# Altium footprint library LARIX_V5.PcbLib: 39 footprints (part 3 of 3)
Each footprint in its own frame and in the unit in brackets; x right, y up, seen from the top. Pads: shape width x height; smd on the part's side, far side on the other; paste and mask are expansions set on the pad; w line width, h text height; cw(c..) or ccw(c..) is an arc to the next point about the centre after c.
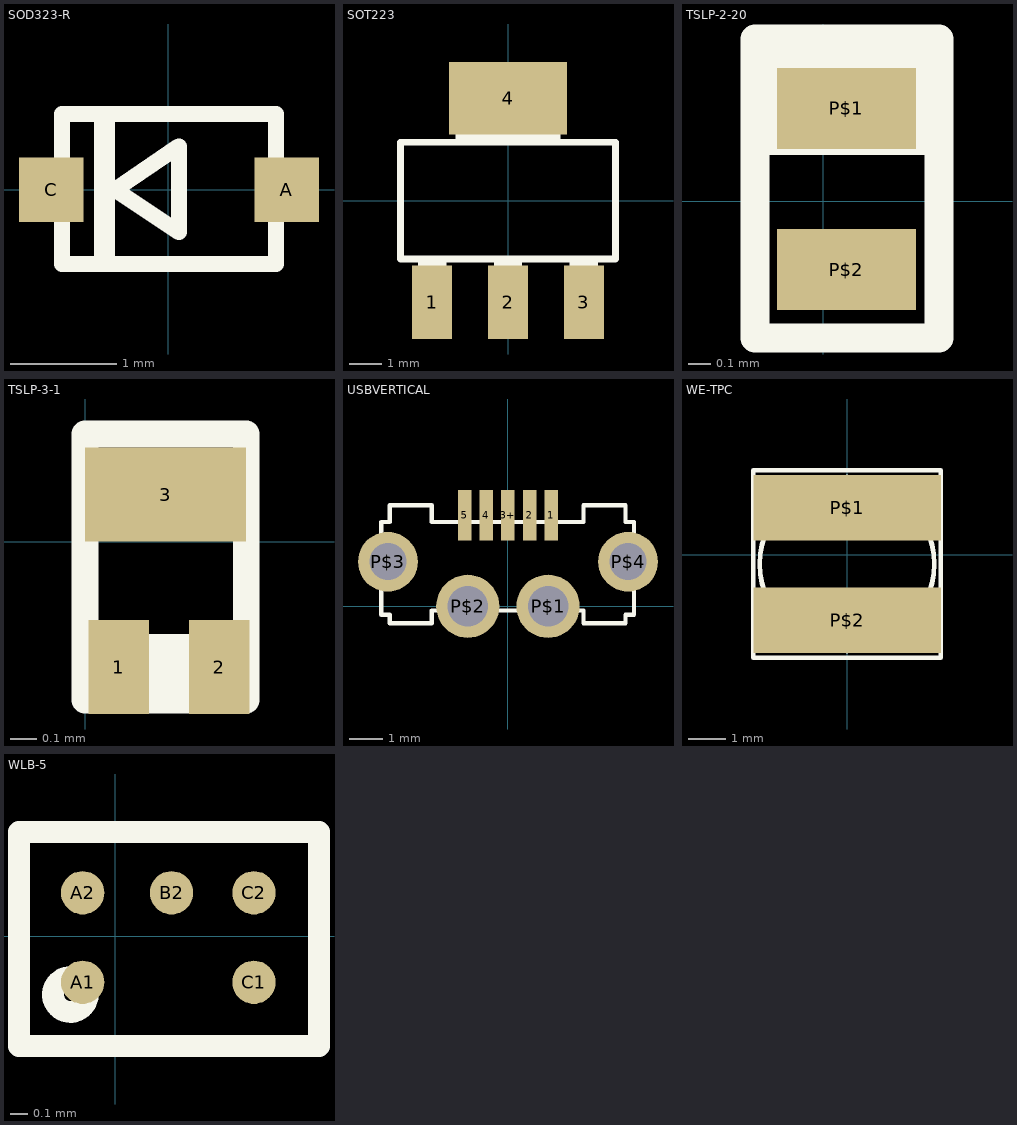
[diagram p2: the footprints below, top view; thin cyan lines are the x and y axes]

## SOD323-R [mil] "SOD323-R"
pads (2):
  rect 24x24 smd: A(44,0) C(-43.31,0)
Top Overlay:
  rectangle: -27.56,-27.56 -19.68,28
  rectangle: -27.56,-27.56 -19.68,28
  lines w6: -39.37,-27.56 -39.37,28 40,28 40,-27.56 -39.37,-27.56 ; -19.68,0 4,-15.75 4,16 -19.68,0
Mechanical 2:
Mechanical 4:
3D body: height 43.31, standoff 0, extent -53.14,-24.6 53.16,24.61

## SOT223 [mil] "SOT223"
pads (4):
  rect 48x88 smd: 1(-91,-122) 2(0,-122) 3(91,-122)
  rect 142x87 smd: 4(0,123)
Top Overlay:
  rectangle: -63,71 63,144
  rectangle: -17,-144 17,-71
  rectangle: -108,-144 -74,-71
  rectangle: 74,-144 108,-71
  rectangle: -63,71 63,144
  rectangle: -17,-144 17,-71
  rectangle: -108,-144 -74,-71
  rectangle: 74,-144 108,-71
  rectangle: -63,71 63,144
  rectangle: -17,-144 17,-71
  rectangle: -108,-144 -74,-71
  rectangle: 74,-144 108,-71
  rectangle: -63,71 63,144
  rectangle: -17,-144 17,-71
  rectangle: -108,-144 -74,-71
  rectangle: 74,-144 108,-71
  lines w8: -129,-70 129,-70 129,70 -129,70 -129,-70
Mechanical 2:
Mechanical 4:
3D body: height 65.97, standoff 0.03, extent -125,-136.46 130.91,136.46

## TSLP-2-20 [mil] "TSLP-2-20"
pads (2):
  rect 24x14 smd: P$1(4,16) P$2(4,-11.81)
Top Overlay:
  rectangle: -11.81,8 20,28
  rectangle: -11.81,8 20,28
  lines w5: -11.81,-23.62 -11.81,28 20,28 20,-23.62 -11.81,-23.62
Mechanical 2:
Mechanical 4:
3D body: height 17.56, standoff 0.03, extent -8.63,-19.69 14.99,19.68

## TSLP-3-1 [mil] "TSLP-3-1"
pads (3):
  rect 9x14 smd: 1(5,-18.7) 2(20,-18.7)
  rect 24x14 smd: 3(12,7)
Top Overlay:
  lines w4: 0,-15.75 24,-15.75 ; 24,-19.68 0,-19.68 ; 0,-19.68 0,16 24,16 24,-23.62 0,-23.62 0,-19.68
Mechanical 2:
Mechanical 4:
3D body: height 25.56, standoff 8.03, extent -1.8,-24.68 21.82,14.69

## USBVERTICAL [mil] "USBVERTICAL"
pads (9):
  rect 16x60 smd: 1(52,108) 2(26,108) 3+(0,108) 4(-25.59,108) 5(-51.18,108)
  round 75 hole 48: P$1(48,0) P$2(-47.24,0)
  round 71 hole 44: P$3(-142.13,53) P$4(143,53)
Top Overlay:
  rectangle: 30,-5 65,10
  rectangle: -65,-5 -30,10
  rectangle: 135,35 150,70
  rectangle: -150,35 -135,70
  rectangle: 45,100 55,125
  rectangle: 20,100 30,125
  rectangle: -5,100 5,125
  rectangle: -30,100 -20,125
  rectangle: -55,100 -45,125
  rectangle: 30,-5 65,10
  rectangle: -65,-5 -30,10
  rectangle: 135,35 150,70
  rectangle: -150,35 -135,70
  rectangle: 45,100 55,125
  rectangle: 20,100 30,125
  rectangle: -5,100 5,125
  rectangle: -30,100 -20,125
  rectangle: -55,100 -45,125
  lines w5: -150,-10 -150,100 -140,100 -140,120 -90,120 -90,100 90,100 90,120 140,120 140,100 150,100 150,-10 140,-10 140,-20 90,-20 90,-5 -90,-5 -90,-20 -140,-20 -140,-10 -150,-10
Mechanical 2:
Mechanical 4:
3D body: height 264.96, standoff -46.26, extent -155,-9.35 159.96,109.35

## WE-TPC [mil] "WE-TPC"
pads (2):
  rect 200x70 smd: P$1(0,50) P$2(0,-70)
Top Overlay:
  circle w5: c0,-10 r93
  circle w5: c0,-10 r93
  lines w5: -100,-40 -100,20 ; -100,-40 -100,-110 100,-110 100,-40 ; -100,-40 100,-40 ; -100,20 -100,90 100,90 100,20 ; -100,20 100,20 ; 100,-40 100,20
Mechanical 2:
Mechanical 4:
3D body: height 110.24, standoff 0, extent -94.48,-99.48 94.5,89.5

## WLB-5 [mil] "WLB-5"
pads (5):
  rrect100% 10x10 smd: A1(-7.48,-10.63) A2(-7.48,10) B2(13,10) C1(32,-10.63) C2(32,10)
Top Overlay:
  circle w5: c-10.32,-13.47 r4
  lines w5: -22.17,-25.32 47,-25.32 47,24 -22.17,24 -22.17,-25.32
Mechanical 2:
Mechanical 4:
3D body: height 25, standoff 1.38, extent -27.36,-29.52 51.37,29.53